# EAGLE library part TPS61032PWP (library TPS61032PWP)
5-V Output, 1-A, 96% Efficient Boost Converter w/20uA Iq in TSSOP-16 Source: Datasheet <http://www.ti.com/lit/ds/symlink/tps61030.pdf>
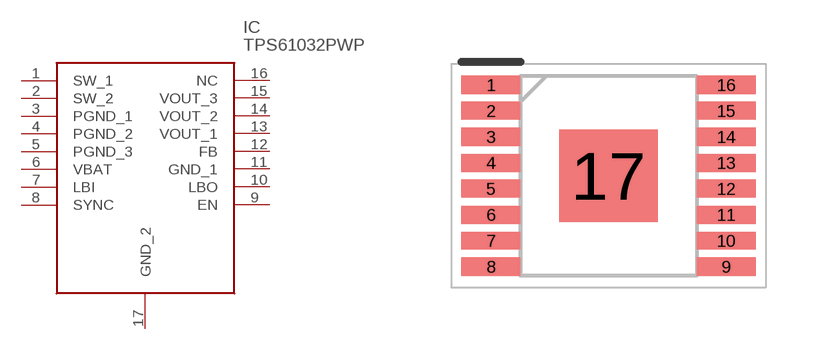
[diagram p0: symbol with the pads of SOP65P640X120-17N; footprint SOP65P640X120-17N]

Designator prefix IC

## TPS61032PWP (Description: 5-V Output, 1-A, 96% Efficient Boost Converter w/20uA Iq in TSSOP-16; Height: 1.2mm; Manufacturer_Name: Texas Instruments; Manufacturer_Part_Number: TPS61032PWP; Mouser_Part_Number: 595-TPS61032PWP; Mouser_Price-Stock: https://www.mouser.co.uk/ProductDetail/Texas-Instruments/TPS61032PWP?qs=Gse6rAGbi7%252B07XodIBvuHQ%3D%3D)  [SOP65P640X120-17N]
1  SW_1
2  SW_2
3  PGND_1
4  PGND_2
5  PGND_3
6  VBAT
7  LBI
8  SYNC
9  EN
10  LBO
11  GND_1
12  FB
13  VOUT_1
14  VOUT_2
15  VOUT_3
16  NC  nc
17  GND_2

## Footprint SOP65P640X120-17N (pad centres in mm)
TPS61032PWP-1
smd 1.475 x 0.45: 1 -2.938,2.275; 2 -2.938,1.625; 3 -2.938,0.975; 4 -2.938,0.325; 5 -2.938,-0.325; 6 -2.938,-0.975; 7 -2.938,-1.625; 8 -2.938,-2.275; 9 2.938,-2.275; 10 2.938,-1.625; 11 2.938,-0.975; 12 2.938,-0.325; 13 2.938,0.325; 14 2.938,0.975; 15 2.938,1.625; 16 2.938,2.275
smd 2.46 x 2.31: 17 0,0